# Altium footprint library STM32P48.PcbLib: 22 footprints (part 1 of 2)
Each footprint in its own frame and in the unit in brackets; x right, y up, seen from the top. Pads: shape width x height; smd on the part's side, far side on the other; paste and mask are expansions set on the pad; w line width, h text height; cw(c..) or ccw(c..) is an arc to the next point about the centre after c.
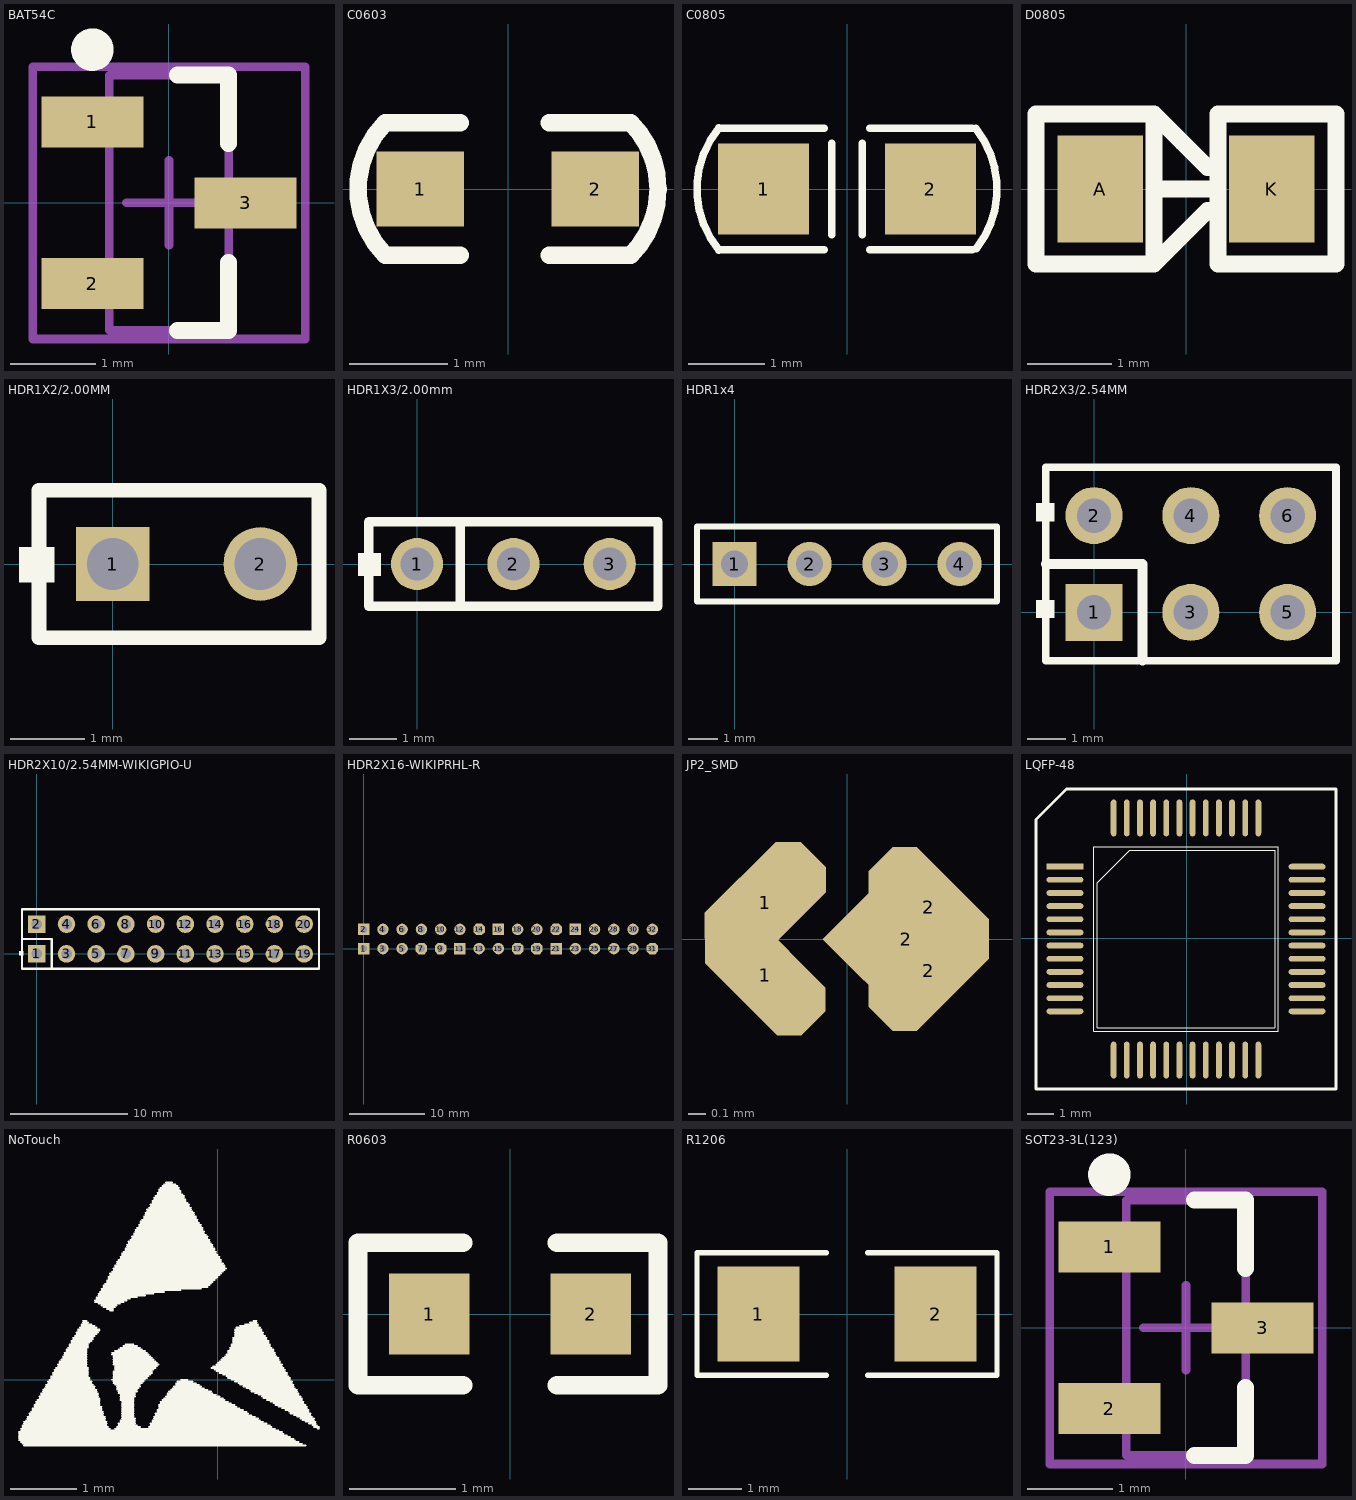
[diagram p0: the footprints below, top view; thin cyan lines are the x and y axes]

## BAT54C [mm] "SOT23, 3-Leads, Body 2.9x1.3mm, Pitch 0.95mm, Lead Span 2.5mm, IPC High Density"
height 1.1
pads (3):
  rect 1.2x0.6 smd: 1(-0.9,0.95) 2(-0.9,-0.95) 3(0.9,0)
Top Overlay:
  circle w0.25: c-0.9,1.8 r0.125
  lines w0.2: 0.1,-1.5 0.7,-1.5 0.7,-0.7 ; 0.1,1.5 0.7,1.5 0.7,0.7
Mechanical 13:
  lines w0.1: -0.7,-1.5 0.7,-1.5 0.7,1.5 -0.7,1.5 -0.7,-1.5
Mechanical 15:
  lines w0.1: -0.5,0 0.5,0 ; 0,-0.5 0,0.5 ; -1.6,-1.6 1.6,-1.6 1.6,1.6 -1.6,1.6 -1.6,-1.6
3D body: height 1.1, standoff 0, extent -0.7,-1.5 0.7,1.5

## C0603 [mil]
pads (2):
  rect 35x30 smd: 1(-35,0) 2(35,0)
Top Overlay:
  lines w7: -19.02,-26.5 -49.02,-26.5 cw(c-22.5,0) -49.02,26.52 -19.02,26.5 ; 16.52,-26.52 49.02,-26.5 ccw(c22.5,0) 49.02,26.52 16.52,26.5
3D body: height 23.62, standoff 0, extent -31,-16 32,15.5

## C0805 [mm]
pads (2):
  rect 1.2x1.2 smd: 1(-1.1,0) 2(1.1,0)
Top Overlay:
  lines w0.1: -1.693,-0.804 cw(c-0.7,0) -1.693,0.804 ; -1.65,-0.8 -0.3,-0.8 ; -1.65,0.8 -0.3,0.8 ; -0.2,-0.6 -0.2,0.6 ; 0.2,-0.6 0.2,0.6 ; 0.3,-0.8 1.65,-0.8 ; 0.3,0.8 1.65,0.8 ; 1.697,0.799 cw(c0.7,0) 1.704,-0.79
3D body: height 1.2, standoff 0, extent -0.991,-0.61 1.009,0.59

## D0805 [mil]
height 153.54
pads (2):
  rect 40x50 smd: A(-40,0) K(40,0)
Top Overlay:
  lines w7.87: -15,0 10,0 ; -8.91,28.91 -8.48,28.48 ; -1.93,21.93 -1.81,21.81 ; 10,-10 -15,-35 ; 10,10 -15,35 ; 15,-10 15,5 15,0 ; -15,-35 -70,-35 -70,35 -15,35 ; -15,-35 -15,35 ; 15,-35 70,-35 70,35 15,35 15,-35
3D body: height 33.45, standoff 0.23, extent -40.21,-16.84 40.99,18.84

## HDR1X2/2.00MM [mm]
pads (2):
  rect 1x1 hole 0.7: 1(0,0)
  round 1 hole 0.7: 2(2,0)
Top Overlay:
  rectangle: -1.27,-0.254 -0.787,0.229
  lines w0.2: -1,-1 2.794,-1 2.794,1 -1,1 -1,-1

## HDR1X3/2.00mm [mm]
pads (3):
  round 1.1 hole 0.7: 1(0,0) 2(2.032,0) 3(4.064,0)
Top Overlay:
  rectangle: -1.244,-0.254 -0.762,0.229
  lines w0.2: 0.914,-0.762 0.914,0.813 ; -1.016,-0.889 5.08,-0.889 5.08,0.889 -1.016,0.889 -1.016,-0.889

## HDR1x4 [mm] "Connector; Header; 4 Position"
pads (4):
  rect 1.5x1.5 hole 0.9: 1(0,0)
  round 1.5 hole 0.9: 2(2.54,0) 3(5.08,0) 4(7.62,0)
Top Overlay:
  lines w0.2: -1.27,-1.27 -1.27,1.27 8.89,1.27 8.89,-1.27 -1.27,-1.27

## HDR2X3/2.54MM [mm] "Connector; Header; 3x2 Position"
pads (6):
  rect 1.5x1.5 hole 0.9: 1(0,0)
  round 1.5 hole 0.9: 2(0,2.54) 3(2.54,0) 4(2.54,2.54) 5(5.08,0) 6(5.08,2.54)
Top Overlay:
  rectangle: -1.524,-0.152 -1.041,0.33
  rectangle: -1.524,2.388 -1.041,2.87
  lines w0.2: 1.482,-1.27 6.35,-1.27 ; 6.35,-1.27 -1.27,-1.27 -1.27,3.81 6.35,3.81 6.35,-1.27
  lines w0.254: -1.27,1.27 1.27,1.27 1.27,-1.27

## HDR2X10/2.54MM-WIKIGPIO-U [mm] "Connector; Header; 9x2 Position"
pads (20):
  rect 1.5x1.5 hole 0.9: 1(0,0) 2(0,2.54)
  round 1.5 hole 0.9: 3(2.54,0) 4(2.54,2.54) 5(5.08,0) 6(5.08,2.54) 7(7.62,0) 8(7.62,2.54) 9(10.16,0) 10(10.16,2.54) 11(12.7,0) 12(12.7,2.54) 13(15.24,0) 14(15.24,2.54) 15(17.78,0) 16(17.78,2.54) 17(20.32,0) 18(20.32,2.54) 19(22.86,0) 20(22.86,2.54)
Top Overlay:
  rectangle: -1.524,-0.129 -1.143,0.252
  lines w0.2: -1.27,1.27 1.27,1.27 1.27,-1.27 ; -1.27,-1.27 -1.27,3.81 0.635,3.81 24.13,3.81 24.13,-1.27 0.635,-1.27 -1.27,-1.27

## HDR2X16-WIKIPRHL-R [mm] "Connector; Header; 16x2 Position"
pads (32):
  rect 1.5x1.5 hole 0.9: 1(0,0) 2(0,2.54) 11(12.7,0) 16(17.78,2.54) 21(25.4,0) 24(27.94,2.54)
  round 1.5 hole 0.9: 3(2.54,0) 4(2.54,2.54) 5(5.08,0) 6(5.08,2.54) 8(7.62,2.54) 10(10.16,2.54) 12(12.7,2.54) 13(15.24,0) 15(17.78,0) 18(20.32,2.54) 20(22.86,2.54) 23(27.94,0) 25(30.48,0) 26(30.48,2.54) 27(33.02,0) 28(33.02,2.54) 29(35.56,0) 30(35.56,2.54) 32(38.1,2.54)
  oct 1.5x1.5 hole 0.9: 7(7.62,0) 9(10.16,0) 14(15.24,2.54) 17(20.32,0) 19(22.86,0) 22(25.4,2.54) 31(38.1,0)

## JP2_SMD [mil]
pads (5):
  oct 15x30 smd rot 45: 1(-18,-8) 2(18,7)
  oct 15.75x30 smd rot 135: 1(-18,8)
  rect 26x26 smd rot 45: 2(13,0)
  oct 15x30 smd rot 135: 2(18,-7)

## LQFP-48 [mm]
height 1
pads (48):
  rect 1.4x0.22 smd: 1(-4.625,2.725)
  oval 1.4x0.22 smd: 2(-4.625,2.225) 3(-4.625,1.725) 4(-4.625,1.225) 5(-4.625,0.725) 6(-4.625,0.225) 7(-4.625,-0.275) 8(-4.625,-0.775) 9(-4.625,-1.275) 10(-4.625,-1.775) 11(-4.625,-2.275) 12(-4.625,-2.775) 25(4.575,-2.775) 26(4.575,-2.275) 27(4.575,-1.775) 28(4.575,-1.275) 29(4.575,-0.775) 30(4.575,-0.275) 31(4.575,0.225) 32(4.575,0.725) 33(4.575,1.225) 34(4.575,1.725) 35(4.575,2.225) 36(4.575,2.725)
  oval 0.22x1.4 smd: 13(-2.775,-4.625) 14(-2.275,-4.625) 15(-1.775,-4.625) 16(-1.275,-4.625) 17(-0.775,-4.625) 18(-0.275,-4.625) 19(0.225,-4.625) 20(0.725,-4.625) 21(1.225,-4.625) 22(1.725,-4.625) 23(2.225,-4.625) 24(2.725,-4.625) 37(2.725,4.575) 38(2.225,4.575) 39(1.725,4.575) 40(1.225,4.575) 41(0.725,4.575) 42(0.225,4.575) 43(-0.275,4.575) 44(-0.775,4.575) 45(-1.275,4.575) 46(-1.775,4.575) 47(-2.275,4.575) 48(-2.775,4.575)
Top Overlay:
  lines w0.025: -3.525,-3.525 -3.525,-0.025 -3.525,3.4 -3.525,3.475 3.475,3.475 3.475,-3.525 -3.525,-3.525 ; -3.39,-3.39 3.34,-3.39 3.34,3.34 -2.155,3.34 -3.39,2.105 -3.39,-3.39
  lines w0.102: -5.725,-5.725 -5.725,4.511 -4.561,5.675 5.675,5.675 5.675,-5.725 -5.725,-5.725
3D body: height 1.45, standoff 0, extent -4.525,-4.53 4.475,4.47

## NoTouch [mm]
Top Overlay:
  drawing of 297 lines, arcs and shapes, not listed

## R0603 [mil]
pads (2):
  rect 30x30 smd: 1(-30,0) 2(30,0)
Top Overlay:
  lines w7: -56.5,26.5 -56.5,-26.5 -17.5,-26.5 ; -55,26.5 -17.5,26.5 ; 17.5,-26.5 55,-26.5 55,26.5 17.5,26.5
3D body: height 17.72, standoff 0, extent -31,-16 32,15.5

## R1206 [mil]
height 153.54
pads (2):
  rect 60x70 smd: 1(-65,0) 2(65,0)
Top Overlay:
  lines w3.94: -15,-45 -110,-45 -110,45 -15,45 ; 15,-45 110,-45 110,45 15,45
3D body: height 23.62, standoff 0, extent -62.5,-31 63.49,32

## SOT23-3L(123) [mm] "SOT23, 3-Leads, Body 2.9x1.3mm, Pitch 0.95mm, Lead Span 2.5mm, IPC High Density"
height 1.1
pads (3):
  rect 1.2x0.6 smd: 1(-0.9,0.95) 2(-0.9,-0.95) 3(0.9,0)
Top Overlay:
  circle w0.25: c-0.9,1.8 r0.125
  lines w0.2: 0.1,-1.5 0.7,-1.5 0.7,-0.7 ; 0.1,1.5 0.7,1.5 0.7,0.7
Mechanical 13:
  lines w0.1: -0.7,-1.5 0.7,-1.5 0.7,1.5 -0.7,1.5 -0.7,-1.5
Mechanical 15:
  lines w0.1: -0.5,0 0.5,0 ; 0,-0.5 0,0.5 ; -1.6,-1.6 1.6,-1.6 1.6,1.6 -1.6,1.6 -1.6,-1.6
3D body: height 1.1, standoff 0, extent -0.7,-1.5 0.7,1.5